# Altium integrated library resistor-bourns.IntLib: 20 symbols
Pins are listed as number, name and electrical type; pins without a type are passive.

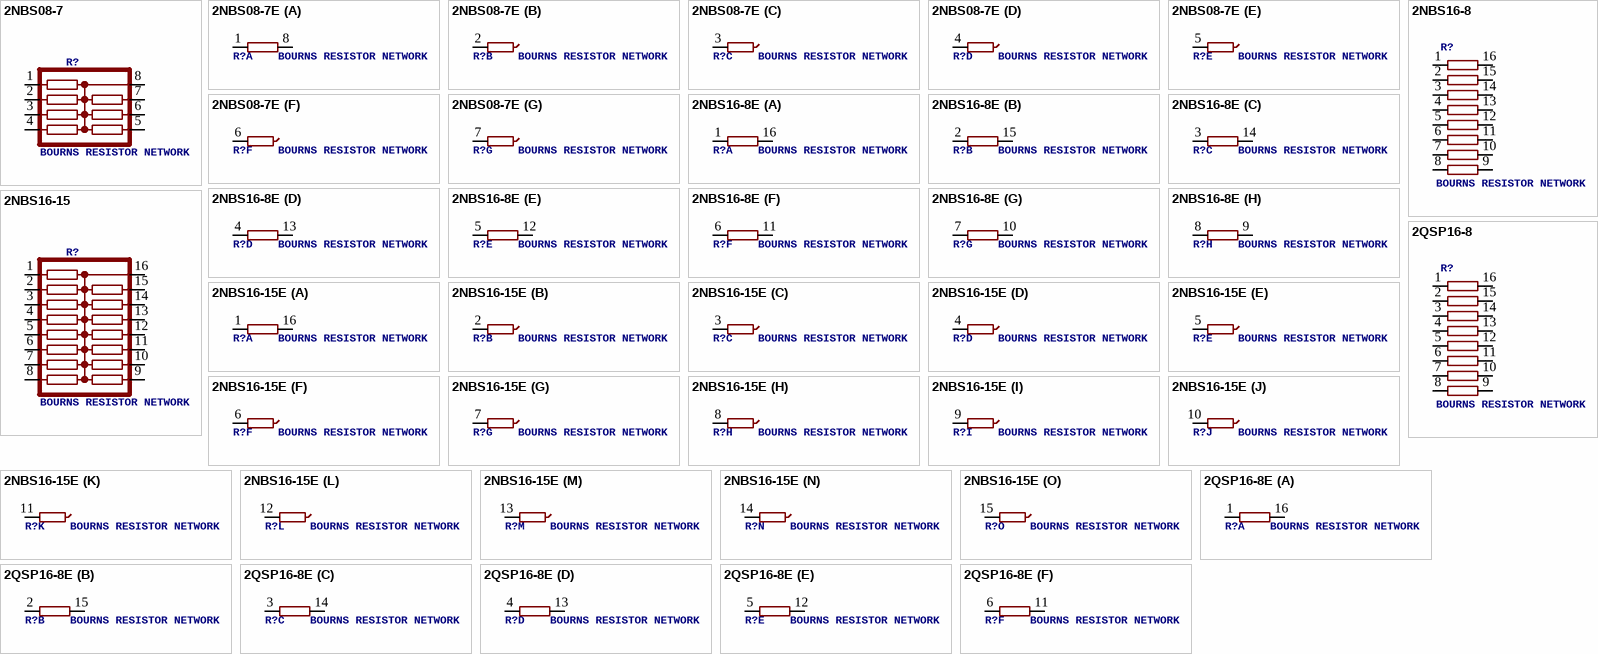
[diagram p0: symbols 2NBS08-7 to 2QSP16-8E]

## 2NBS08-7
designator R?, comment BOURNS RESISTOR NETWORK
OC_FARNELL: unknown; OC_NEWARK: unknown
footprint SO8
pins: 1, 2, 3, 4, 5, 6, 7, 8

## 2NBS08-7E
designator R?, comment BOURNS RESISTOR NETWORK
OC_FARNELL: unknown; OC_NEWARK: unknown
footprint SO8
part A pins: 1, 8 2
part B pins: 2 1
part C pins: 3 1
part D pins: 4 1
part E pins: 5 1
part F pins: 6 1
part G pins: 7 1

## 2NBS16-8
designator R?, comment BOURNS RESISTOR NETWORK
OC_FARNELL: unknown; OC_NEWARK: unknown
footprint SO16
pins: 1, 2, 3, 4, 5, 6, 7, 8, 9, 10, 11, 12, 13, 14, 15, 16

## 2NBS16-8E
designator R?, comment BOURNS RESISTOR NETWORK
OC_FARNELL: unknown; OC_NEWARK: unknown
footprint SO16
part A pins: 1, 16 2
part B pins: 2 1, 15 2
part C pins: 3 1, 14 2
part D pins: 4 1, 13 2
part E pins: 5 1, 12 2
part F pins: 6 1, 11 2
part G pins: 7 1, 10 2
part H pins: 8 1, 9 2

## 2NBS16-15
designator R?, comment BOURNS RESISTOR NETWORK
OC_FARNELL: unknown; OC_NEWARK: unknown
footprint SO16
pins: 1, 2, 3, 4, 5, 6, 7, 8, 9, 10, 11, 12, 13, 14, 15, 16

## 2NBS16-15E
designator R?, comment BOURNS RESISTOR NETWORK
OC_FARNELL: unknown; OC_NEWARK: unknown
footprint SO16
part A pins: 1, 16 2
part B pins: 2 1
part C pins: 3 1
part D pins: 4 1
part E pins: 5 1
part F pins: 6 1
part G pins: 7 1
part H pins: 8 1
part I pins: 9 1
part J pins: 10 1
part K pins: 11 1
part L pins: 12 1
part M pins: 13 1
part N pins: 14 1
part O pins: 15 1

## 2QSP16-8
designator R?, comment BOURNS RESISTOR NETWORK
OC_FARNELL: unknown; OC_NEWARK: unknown
footprint 2QSP16
pins: 1, 2, 3, 4, 5, 6, 7, 8, 9, 10, 11, 12, 13, 14, 15, 16

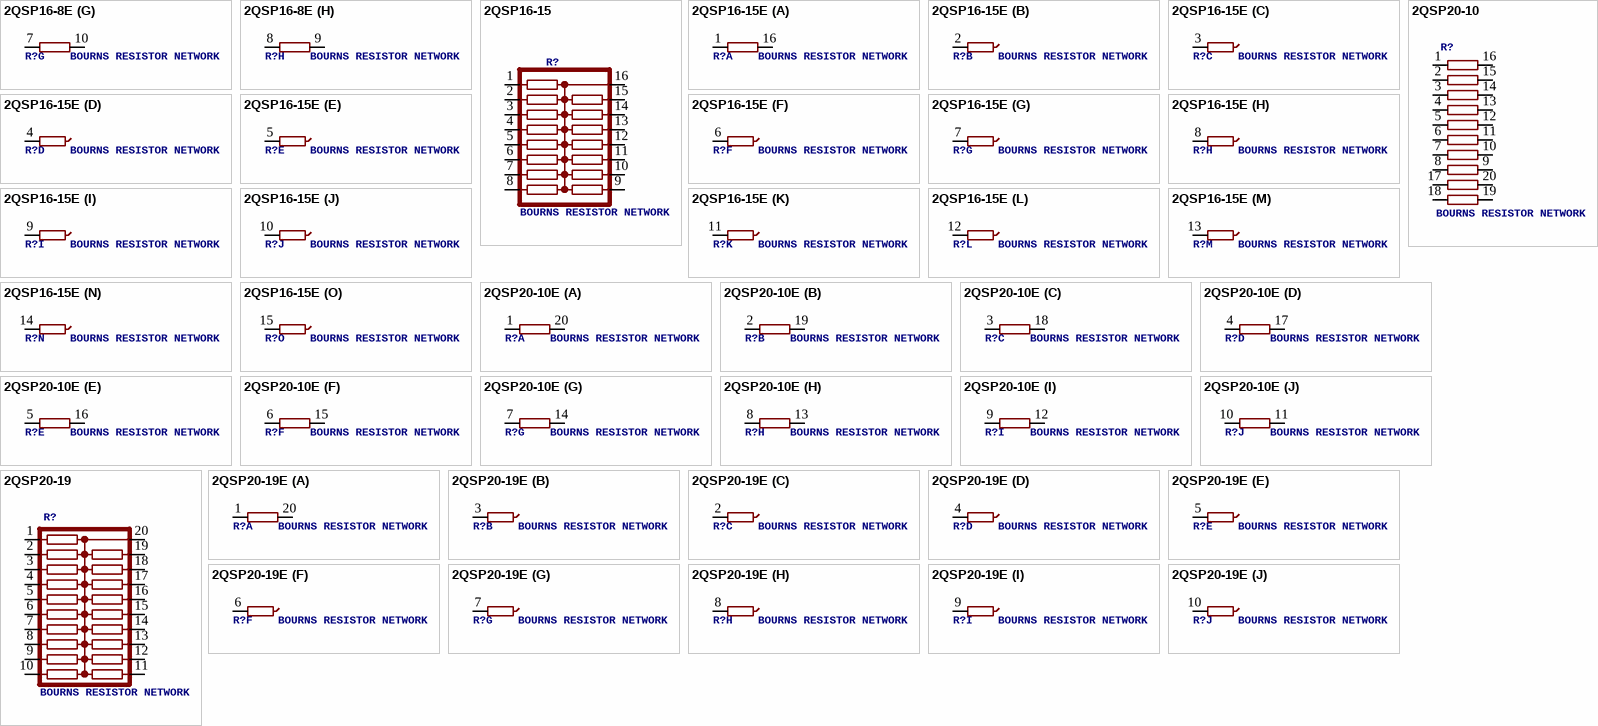
[diagram p1: symbols 2QSP16-8E to 2QSP20-19E]

## 2QSP16-8E
designator R?, comment BOURNS RESISTOR NETWORK
OC_FARNELL: unknown; OC_NEWARK: unknown
footprint 2QSP16
part A pins: 1, 16 2
part B pins: 2 1, 15 2
part C pins: 3 1, 14 2
part D pins: 4 1, 13 2
part E pins: 5 1, 12 2
part F pins: 6 1, 11 2
part G pins: 7 1, 10 2
part H pins: 8 1, 9 2

## 2QSP16-15
designator R?, comment BOURNS RESISTOR NETWORK
OC_FARNELL: unknown; OC_NEWARK: unknown
footprint 2QSP16
pins: 1, 2, 3, 4, 5, 6, 7, 8, 9, 10, 11, 12, 13, 14, 15, 16

## 2QSP16-15E
designator R?, comment BOURNS RESISTOR NETWORK
OC_FARNELL: unknown; OC_NEWARK: unknown
footprint 2QSP16
part A pins: 1, 16 2
part B pins: 2 1
part C pins: 3 1
part D pins: 4 1
part E pins: 5 1
part F pins: 6 1
part G pins: 7 1
part H pins: 8 1
part I pins: 9 1
part J pins: 10 1
part K pins: 11 1
part L pins: 12 1
part M pins: 13 1
part N pins: 14 1
part O pins: 15 1

## 2QSP20-10
designator R?, comment BOURNS RESISTOR NETWORK
MPN: 2QSP20-RG1-100; MF: BOURNS, INC.; OC_FARNELL: unknown; OC_NEWARK: 61H1407
footprint 2QSP20
pins: 1, 2, 3, 4, 5, 6, 7, 8, 9, 10, 11, 12, 13, 14, 15, 16, 17, 18, 19 31, 20 32

## 2QSP20-10E
designator R?, comment BOURNS RESISTOR NETWORK
OC_FARNELL: unknown; OC_NEWARK: unknown
footprint 2QSP20
part A pins: 1, 20 2
part B pins: 2 1, 19 2
part C pins: 3 1, 18 2
part D pins: 4 1, 17 2
part E pins: 5 1, 16 2
part F pins: 6 1, 15 2
part G pins: 7 1, 14 2
part H pins: 8 1, 13 2
part I pins: 9 1, 12 2
part J pins: 10 1, 11 2

## 2QSP20-19
designator R?, comment BOURNS RESISTOR NETWORK
OC_FARNELL: unknown; OC_NEWARK: unknown
footprint 2QSP20
pins: 1, 2, 3, 4, 5, 6, 7, 8, 9, 10, 11, 12, 13, 14, 15, 16, 17, 18, 19, 20

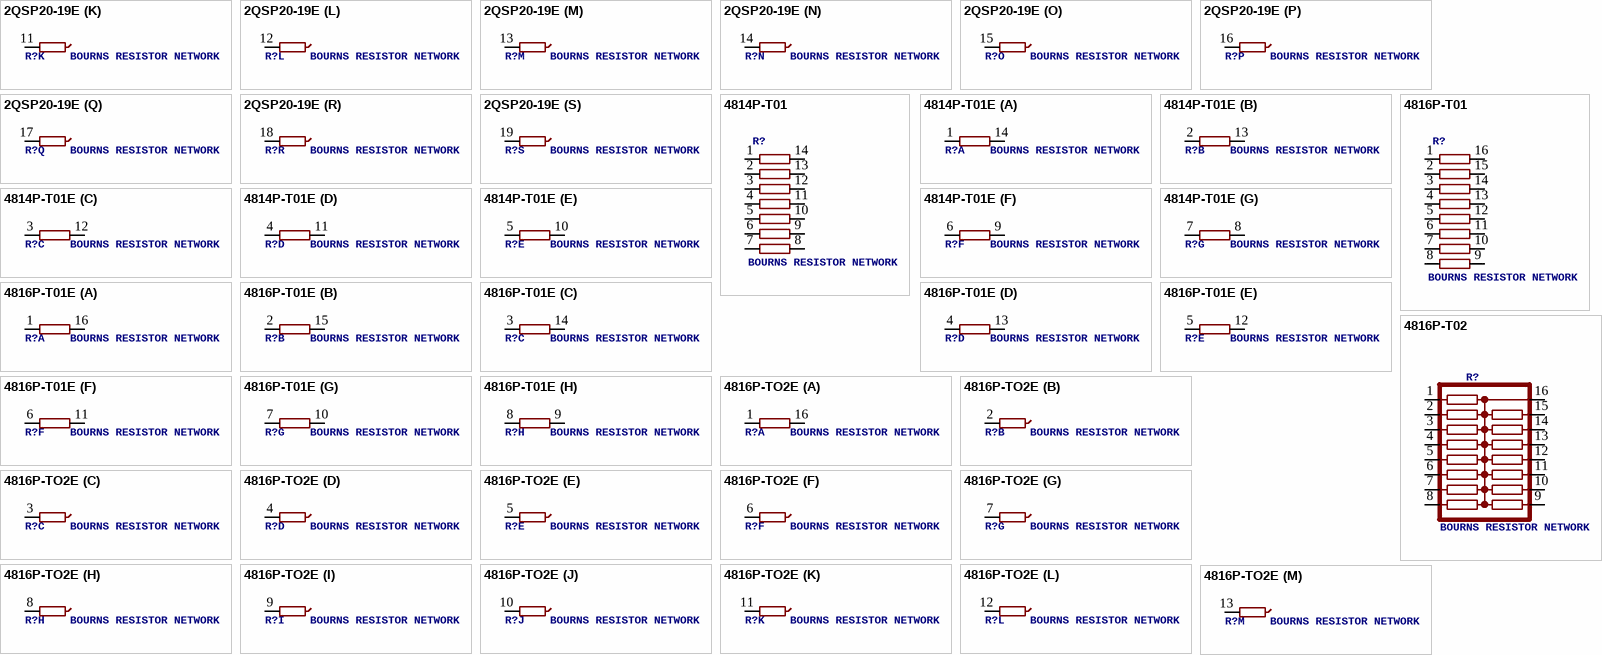
[diagram p2: symbols 2QSP20-19E to 4816P-TO2E]

## 2QSP20-19E
designator R?, comment BOURNS RESISTOR NETWORK
OC_FARNELL: unknown; OC_NEWARK: unknown
footprint 2QSP20
part A pins: 1, 20 2
part B pins: 3 1
part C pins: 2 1
part D pins: 4 1
part E pins: 5 1
part F pins: 6 1
part G pins: 7 1
part H pins: 8 1
part I pins: 9 1
part J pins: 10 1
part K pins: 11 1
part L pins: 12 1
part M pins: 13 1
part N pins: 14 1
part O pins: 15 1
part P pins: 16 1
part Q pins: 17 1
part R pins: 18 1
part S pins: 19 1

## 4814P-T01
designator R?, comment BOURNS RESISTOR NETWORK
MPN: 4814P-T01-104LF; MF: BOURNS, INC.; OC_FARNELL: 9357386; OC_NEWARK: 33K0526
footprint 4814P
pins: 1, 2, 3, 4, 5, 6, 7, 8, 9, 10, 11, 12, 13, 14

## 4814P-T01E
designator R?, comment BOURNS RESISTOR NETWORK
OC_FARNELL: unknown; OC_NEWARK: unknown
footprint 4814P
part A pins: 1, 14 2
part B pins: 2 1, 13 2
part C pins: 3 1, 12 2
part D pins: 4 1, 11 2
part E pins: 5 1, 10 2
part F pins: 6 1, 9 2
part G pins: 7 1, 8 2

## 4816P-T01
designator R?, comment BOURNS RESISTOR NETWORK
MPN: 4816P-T01-684LF; MF: BOURNS, INC.; OC_FARNELL: 9357483; OC_NEWARK: 33K0707
footprint 4816P
pins: 1, 2, 3, 4, 5, 6, 7, 8, 9, 10, 11, 12, 13, 14, 15, 16

## 4816P-T01E
designator R?, comment BOURNS RESISTOR NETWORK
OC_FARNELL: unknown; OC_NEWARK: unknown
footprint 4816P
part A pins: 1, 16 2
part B pins: 2 1, 15 2
part C pins: 3 1, 14 2
part D pins: 4 1, 13 2
part E pins: 5 1, 12 2
part F pins: 6 1, 11 2
part G pins: 7 1, 10 2
part H pins: 8 1, 9 2

## 4816P-T02
designator R?, comment BOURNS RESISTOR NETWORK
MPN: 4816P-T02-824LF; MF: BOURNS, INC.; OC_FARNELL: 9357599; OC_NEWARK: 33K0777
footprint 4816P
pins: 1, 2, 3, 4, 5, 6, 7, 8, 9, 10, 11, 12, 13, 14, 15, 16

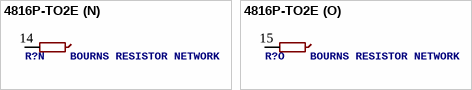
[diagram p3: symbol 4816P-TO2E]

## 4816P-TO2E
designator R?, comment BOURNS RESISTOR NETWORK
OC_FARNELL: unknown; OC_NEWARK: unknown
footprint 4816P
part A pins: 1, 16 2
part B pins: 2 1
part C pins: 3 1
part D pins: 4 1
part E pins: 5 1
part F pins: 6 1
part G pins: 7 1
part H pins: 8 1
part I pins: 9 1
part J pins: 10 1
part K pins: 11 1
part L pins: 12 1
part M pins: 13 1
part N pins: 14 1
part O pins: 15 1